# Altium footprint library Capacitors_rus.PCBLIB: 349 footprints (part 19 of 22)
Each footprint in its own frame and in the unit in brackets; x right, y up, seen from the top. Pads: shape width x height; smd on the part's side, far side on the other; paste and mask are expansions set on the pad; w line width, h text height; cw(c..) or ccw(c..) is an arc to the next point about the centre after c.
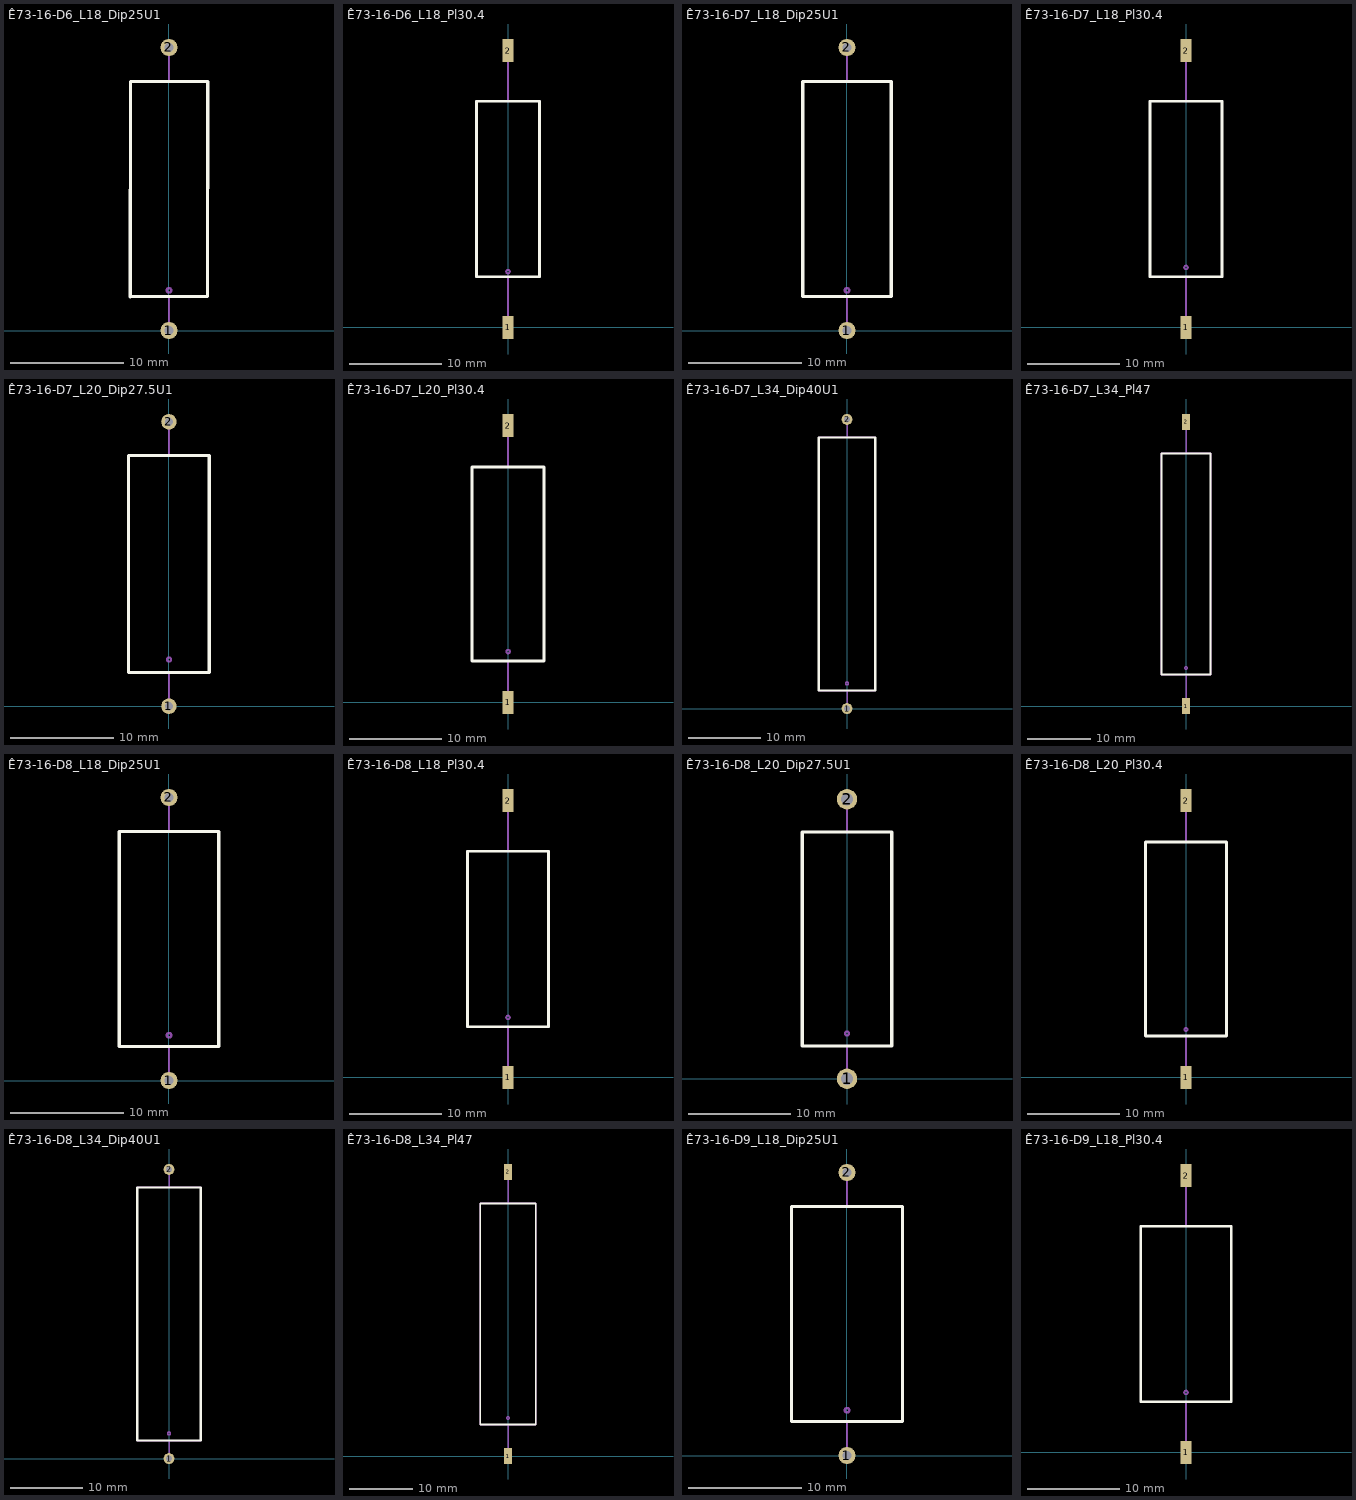
[diagram p18: the footprints below, top view; thin cyan lines are the x and y axes]

## Ê73-16-D6_L18_Dip25U1 [mm]
height 6.8
pads (2):
  round 1.5 hole 0.8 unplated: 1(0,0) 2(0,25)
Top Overlay:
  lines w0.3: -3.41,2.99 -3.4,22 3.41,22 3.4,3 -3.4,3.01
Mechanical 1:
  circle w0.2: c0,3.55 r0.2
  lines w0.2: 0,0 0,3.03 ; 0,21.98 0,25 ; -3.4,3.01 3.4,3 3.41,22 -3.4,22 -3.4,3.01
  text ".Designator" at 0.45,9.8 h1.5
3D body: height 6, standoff -3, extent -3,-0.3 2.988,25.299

## Ê73-16-D6_L18_Pl30.4 [mm]
height 6.8
pads (2):
  rect 1.2x2.5 smd: 1(0,0) 2(0,30)
Top Overlay:
  lines w0.3: -3.41,5.49 -3.4,24.5 3.41,24.5 3.4,5.5 -3.4,5.51
Mechanical 1:
  circle w0.2: c0,6.05 r0.2
  lines w0.2: 0,-0.2 0,5.53 ; 0,24.48 0,30.2 ; -3.4,5.51 -3.4,24.5 3.41,24.5 3.4,5.5 -3.4,5.51
  text ".Designator" at 0.25,11.7 h1.5
3D body: height 6, standoff 0, extent -3,-1 2.988,31

## Ê73-16-D7_L18_Dip25U1 [mm]
height 7.8
pads (2):
  round 1.5 hole 0.8 unplated: 1(0,0) 2(0,25)
Top Overlay:
  lines w0.3: -3.9,3 -3.9,22 3.9,22 3.9,3 -3.9,3
Mechanical 1:
  circle w0.2: c0,3.55 r0.2
  lines w0.2: 0,0 0,3.03 ; 0,21.98 0,25 ; 3.9,22 3.9,3 -3.9,3 -3.9,22 3.9,22.01
  text ".Designator" at 0.3,9.9 h1.5
3D body: height 7, standoff -3, extent -3.5,-0.3 3.486,25.299

## Ê73-16-D7_L18_Pl30.4 [mm]
height 7.8
pads (2):
  rect 1.2x2.5 smd: 1(0,0) 2(0,30)
Top Overlay:
  lines w0.3: -3.9,5.5 3.9,5.5 3.9,24.5 -3.9,24.5 -3.9,5.5
Mechanical 1:
  circle w0.2: c0,6.5 r0.2
  lines w0.2: 0,-0.2 0,5.53 ; 0,24.48 0,30.2 ; 3.9,24.5 3.9,5.5 -3.9,5.5 -3.9,24.5 3.9,24.51
  text ".Designator" at 0.3,12.8 h1.5
3D body: height 7, standoff 0, extent -3.5,-1 3.486,31

## Ê73-16-D7_L20_Dip27.5U1 [mm]
height 7.8
pads (2):
  round 1.5 hole 0.8 unplated: 1(0,0) 2(0,27.5)
Top Overlay:
  lines w0.3: -3.9,3.25 3.9,3.25 3.9,24.25 -3.9,24.25 -3.9,3.25
Mechanical 1:
  circle w0.2: c0.01,4.51 r0.2
  lines w0.2: 0,0 0,3.28 ; 0,24.23 0,27.5 ; 3.9,24.25 -3.9,24.25 -3.9,3.25 3.9,3.25 3.91,24.25
  text ".Designator" at 0.3,11.95 h1.5
3D body: height 7, standoff -3, extent -3.5,-0.4 3.486,27.898

## Ê73-16-D7_L20_Pl30.4 [mm]
height 7.8
pads (2):
  rect 1.2x2.5 smd: 1(0,0) 2(0,30)
Top Overlay:
  lines w0.3: -3.9,4.5 3.9,4.5 3.9,25.5 -3.9,25.5 -3.9,4.5
Mechanical 1:
  circle w0.2: c0.01,5.51 r0.2
  lines w0.2: 0,-0.2 0,4.53 ; 0,25.48 0,30.2 ; -3.9,4.5 3.9,4.5 3.9,25.5 -3.9,25.5 -3.9,4.5
  text ".Designator" at 0.3,13.05 h1.5
3D body: height 7, standoff 0, extent -3.5,-1 3.486,31

## Ê73-16-D7_L34_Dip40U1 [mm]
height 7.8
pads (2):
  round 1.5 hole 0.8 unplated: 1(0,0) 2(0,40)
Top Overlay:
  lines w0.3: -3.9,2.5 -3.9,37.5 3.9,37.5 3.9,2.5 -3.9,2.5
Mechanical 1:
  circle w0.2: c0,3.48 r0.2
  lines w0.2: 0,0 0,2.5 ; 0,37.5 0,40 ; -3.9,2.5 -3.9,37.5 3.9,37.5 3.9,2.5 -3.9,2.5
  text ".Designator" at 0.3,19.4 h1.5
3D body: height 7, standoff -3, extent -3.5,-0.3 3.486,40.299

## Ê73-16-D7_L34_Pl47 [mm]
height 7.8
pads (2):
  rect 1.2x2.5 smd: 1(0,0) 2(0,45)
Top Overlay:
  lines w0.3: -3.9,5 -3.9,40 3.9,40 3.9,5 -3.9,5
Mechanical 1:
  circle w0.2: c0,6.03 r0.2
  lines w0.2: 0,-1 0,5 ; 0,40 0,46 ; -3.9,5 -3.9,40 3.9,40 3.9,5 -3.9,5
  text ".Designator" at 0.3,22.4 h1.5
3D body: height 7, standoff 0, extent -3.5,-1 3.486,46

## Ê73-16-D8_L18_Dip25U1 [mm]
height 8.8
pads (2):
  round 1.5 hole 0.8 unplated: 1(0,0) 2(0,25)
Top Overlay:
  lines w0.3: -4.4,3 -4.4,22 4.4,22 4.4,3 -4.4,3
Mechanical 1:
  circle w0.2: c0,4 r0.2
  lines w0.2: 0,0 0,3.03 ; 0,21.98 0,25 ; -4.4,3 -4.4,22 4.4,22 4.4,3 -4.4,3
  text ".Designator" at 0.3,10.4 h1.5
3D body: height 8, standoff -3, extent -4,-0.4 3.984,25.398

## Ê73-16-D8_L18_Pl30.4 [mm]
height 8.8
pads (2):
  rect 1.2x2.5 smd: 1(0,0) 2(0,30)
Top Overlay:
  lines w0.3: -4.4,5.5 4.4,5.5 4.4,24.5 -4.4,24.5 -4.4,5.5
Mechanical 1:
  circle w0.2: c0,6.5 r0.2
  lines w0.2: 0,-0.2 0,5.53 ; 0,24.48 0,30.2 ; -4.4,5.5 4.4,5.5 4.4,24.5 -4.4,24.5 -4.4,5.5
  text ".Designator" at 0.3,13.4 h1.5
3D body: height 8, standoff 0, extent -4,-1 3.984,31

## Ê73-16-D8_L20_Dip27.5U1 [mm]
height 8.8
pads (2):
  round 2 hole 1.2: 1(0,0) 2(0,27.5)
Top Overlay:
  lines w0.3: -4.4,24.24 -4.4,3.25 4.4,3.25 4.4,24.25 -4.4,24.25
Mechanical 1:
  circle w0.2: c0.01,4.46 r0.2
  lines w0.2: 0,0 0,3.28 ; 0,24.23 0,27.5 ; 4.4,3.25 4.4,24.25 -4.4,24.25 -4.4,3.25 4.4,3.26
  text ".Designator" at 0.35,11.75 h1.5
3D body: height 8, standoff -3, extent -4,-0.4 3.984,27.898

## Ê73-16-D8_L20_Pl30.4 [mm]
height 8.8
pads (2):
  rect 1.2x2.5 smd: 1(0,0) 2(0,30)
Top Overlay:
  lines w0.3: -4.4,25.49 -4.4,4.5 4.4,4.5 4.4,25.5 -4.4,25.5
Mechanical 1:
  lines w0.2: -0.02,5.04 cw(c-0.02,5.195) -0.02,5.35 ; -0.01,5.03 ccw(c-0.01,5.195) -0.01,5.36 ; 0,-0.2 0,4.53 ; 0,25.48 0,30.2 ; 4.4,4.5 4.4,25.5 -4.4,25.5 -4.4,4.5 4.4,4.51
  text ".Designator" at 0.05,12.6 h1.5
3D body: height 8, standoff 0, extent -4,-1 3.984,31

## Ê73-16-D8_L34_Dip40U1 [mm]
height 8.8
pads (2):
  round 1.5 hole 0.8 unplated: 1(0,0) 2(0,40)
Top Overlay:
  lines w0.3: -4.4,2.5 4.4,2.5 4.4,37.5 -4.4,37.5 -4.4,2.5
Mechanical 1:
  circle w0.2: c0,3.48 r0.2
  lines w0.2: 0,0 0,2.5 ; 0,37.5 0,40 ; -4.4,2.5 4.4,2.5 4.4,37.5 -4.4,37.5 -4.4,2.5
  text ".Designator" at 0.3,19.4 h1.5
3D body: height 8, standoff -3, extent -4,-0.4 3.984,40.398

## Ê73-16-D8_L34_Pl47 [mm]
height 8.8
pads (2):
  rect 1.2x2.5 smd: 1(0,0) 2(0,45)
Top Overlay:
  lines w0.3: -4.4,5 4.4,5 4.4,40 -4.4,40 -4.4,5
Mechanical 1:
  circle w0.2: c0,6.03 r0.2
  lines w0.2: 0,-1 0,5 ; 0,40 0,46 ; -4.4,5 4.4,5 4.4,40 -4.4,40 -4.4,5
  text ".Designator" at 0.3,21.4 h1.5
3D body: height 8, standoff 0, extent -4,-1 3.984,46

## Ê73-16-D9_L18_Dip25U1 [mm]
height 9.8
pads (2):
  round 1.5 hole 0.8 unplated: 1(0,0) 2(0,25)
Top Overlay:
  lines w0.3: -4.9,3 -4.9,22 4.9,22 4.9,3 -4.9,3
Mechanical 1:
  circle w0.2: c0,4 r0.2
  lines w0.2: 0,0 0,3.03 ; 0,21.98 0,25 ; -4.9,3 -4.9,22 4.9,22 4.9,3 -4.9,3
  text ".Designator" at 0.3,9.4 h1.5
3D body: height 9, standoff -3, extent -4.5,-0.4 4.482,25.398

## Ê73-16-D9_L18_Pl30.4 [mm]
height 9.8
pads (2):
  rect 1.2x2.5 smd: 1(0,0) 2(0,30)
Top Overlay:
  lines w0.3: -4.9,5.5 4.9,5.5 4.9,24.5 -4.9,24.5 -4.9,5.5
Mechanical 1:
  circle w0.2: c0,6.5 r0.2
  lines w0.2: 0,-0.2 0,5.53 ; 0,24.48 0,30.2 ; -4.9,5.5 4.9,5.5 4.9,24.5 -4.9,24.5 -4.9,5.5
  text ".Designator" at 0.3,12.4 h1.5
3D body: height 9, standoff 0, extent -4.5,-1 4.482,31